# Altium footprint library Connector_Phoenix_MC.PcbLib: 180 footprints (part 5 of 12)
Each footprint in its own frame and in the unit in brackets; x right, y up, seen from the top. Pads: shape width x height; smd on the part's side, far side on the other; paste and mask are expansions set on the pad; w line width, h text height; cw(c..) or ccw(c..) is an arc to the next point about the centre after c.
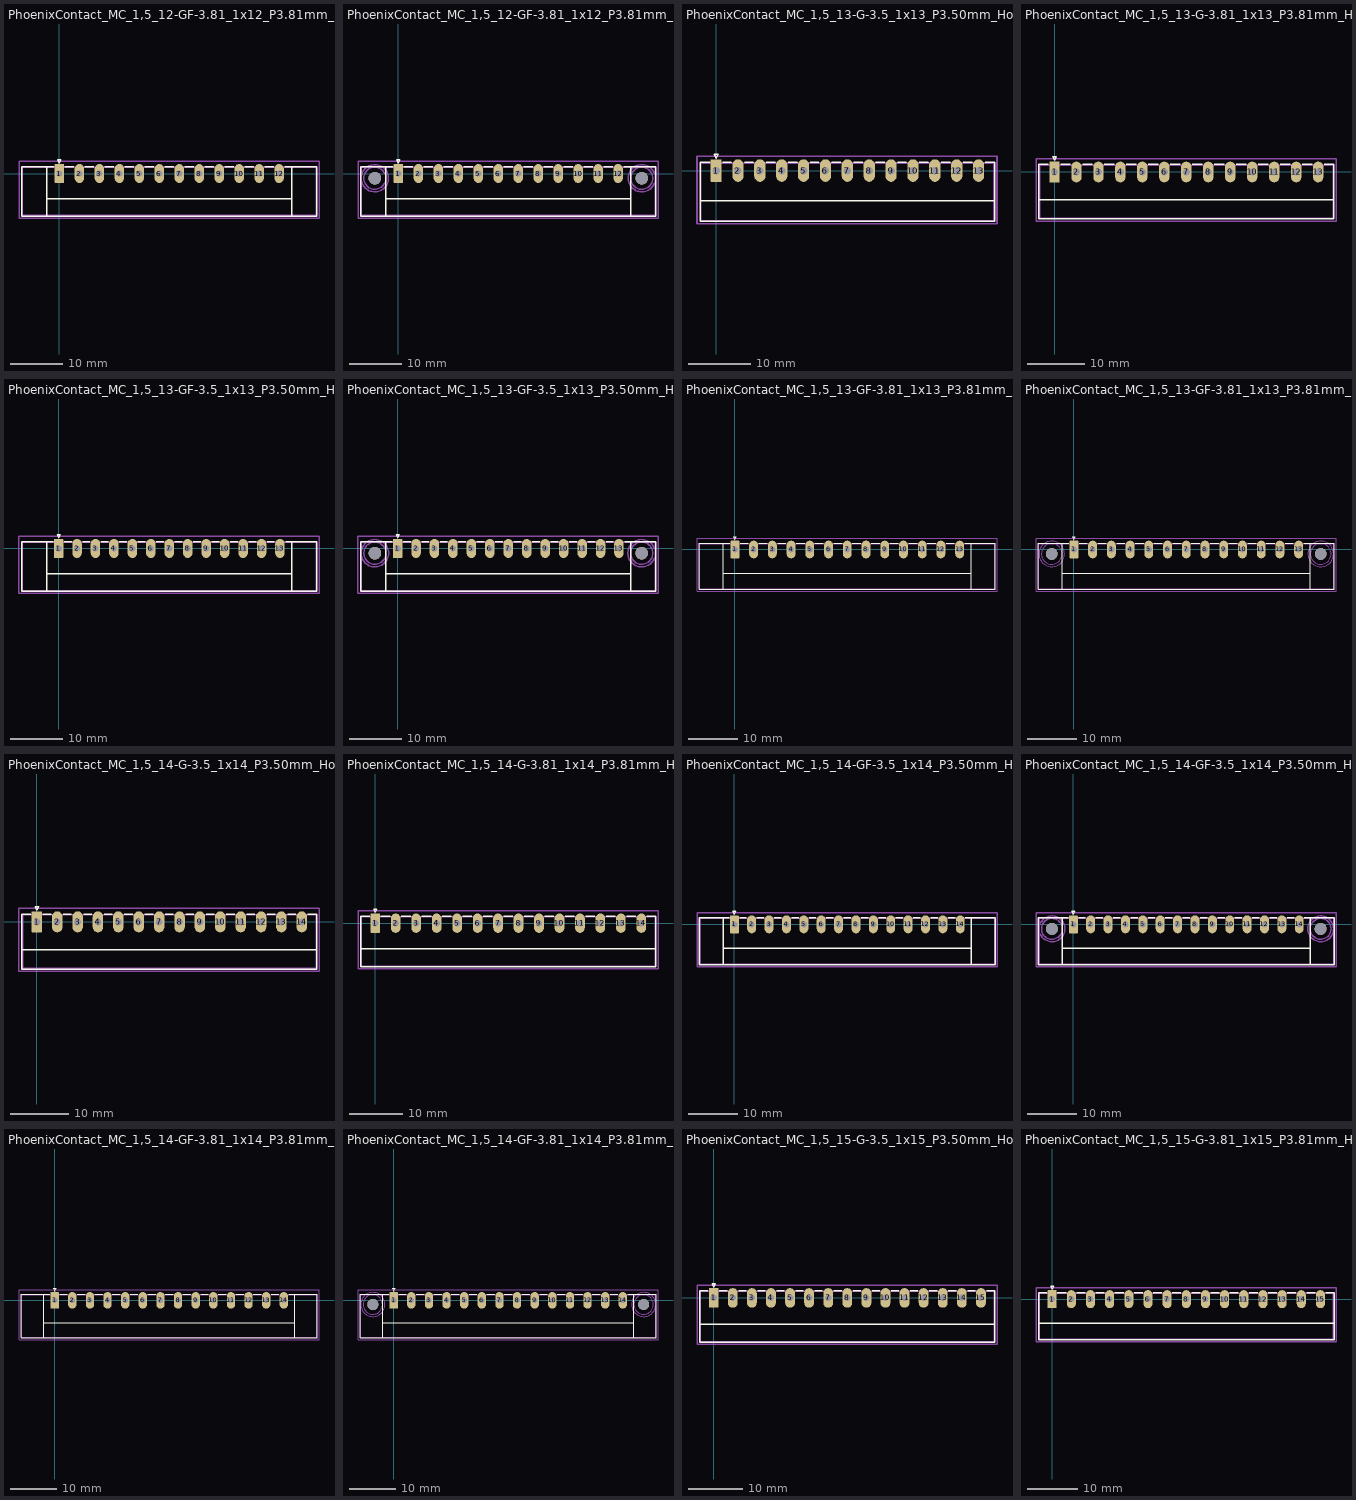
[diagram p4: the footprints below, top view; thin cyan lines are the x and y axes]

## PhoenixContact_MC_1,5_12-GF-3.81_1x12_P3.81mm_Horizontal_ThreadedFlange [mm]
pads (12):
  rrect14% 1.8x3.6 hole 1.2: 1(0,0)
  rrect100% 1.8x3.6 hole 1.2: 2(3.81,0) 3(7.62,0) 4(11.43,0) 5(15.24,0) 6(19.05,0) 7(22.86,0) 8(26.67,0) 9(30.48,0) 10(34.29,0) 11(38.1,0) 12(41.91,0)
F.SilkS:
  lines w0.254: -2.41,-8.11 -2.41,1.31 ; -2.41,-4.8 44.32,-4.8 ; -1.05,1.31 -7.21,1.31 -7.21,-8.11 49.12,-8.11 49.12,1.31 42.96,1.31 ; 1.05,1.31 2.76,1.31 ; 4.86,1.31 6.57,1.31 ; 8.67,1.31 10.38,1.31 ; 12.48,1.31 14.19,1.31 ; 16.29,1.31 18,1.31 ; 20.1,1.31 21.81,1.31 ; 23.91,1.31 25.62,1.31 ; 27.72,1.31 29.43,1.31 ; 31.53,1.31 33.24,1.31 ; 35.34,1.31 37.05,1.31 ; 39.15,1.31 40.86,1.31 ; 44.32,-8.11 44.32,1.31 ; -0.3,2.6 0,2 0.3,2.6 -0.3,2.6
Top Assembly:
  lines w0.254: -0.8,1.2 0,0 0.8,1.2 ; -7.1,-8 49.01,-8 49.01,1.2 -7.1,1.2 -7.1,-8
  text "'.Designator'" at 16.913,-0.34 h1
Top Courtyard:
  lines w0.254: -7.71,-8.5 49.51,-8.5 49.51,2.3 -7.71,2.3 -7.71,-8.5
Top Designator:
  text ".Designator" at 13.282,-3.458 h1.52

## PhoenixContact_MC_1,5_12-GF-3.81_1x12_P3.81mm_Horizontal_ThreadedFlange_MountHole [mm]
pads (14):
  rrect14% 1.8x3.6 hole 1.2: 1(0,0)
  rrect100% 1.8x3.6 hole 1.2: 2(3.81,0) 3(7.62,0) 4(11.43,0) 5(15.24,0) 6(19.05,0) 7(22.86,0) 8(26.67,0) 9(30.48,0) 10(34.29,0) 11(38.1,0) 12(41.91,0)
  round 2.4 hole 2.4: Un1(-4.5,-0.9) Un2(46.41,-0.9)
F.SilkS:
  lines w0.254: -2.41,-8.11 -2.41,1.31 ; -2.41,-4.8 44.32,-4.8 ; -1.05,1.31 -7.21,1.31 -7.21,-8.11 49.12,-8.11 49.12,1.31 42.96,1.31 ; 1.05,1.31 2.76,1.31 ; 4.86,1.31 6.57,1.31 ; 8.67,1.31 10.38,1.31 ; 12.48,1.31 14.19,1.31 ; 16.29,1.31 18,1.31 ; 20.1,1.31 21.81,1.31 ; 23.91,1.31 25.62,1.31 ; 27.72,1.31 29.43,1.31 ; 31.53,1.31 33.24,1.31 ; 35.34,1.31 37.05,1.31 ; 39.15,1.31 40.86,1.31 ; 44.32,-8.11 44.32,1.31 ; -0.3,2.6 0,2 0.3,2.6 -0.3,2.6
B.SilkS:
  circle w0.254: c46.41,-0.9 r2.21
  circle w0.254: c-4.5,-0.9 r2.21
Top Assembly:
  lines w0.254: -0.8,1.2 0,0 0.8,1.2 ; -7.1,-8 49.01,-8 49.01,1.2 -7.1,1.2 -7.1,-8
  text "'.Designator'" at 16.913,-0.34 h1
Bottom Assembly:
  circle w0.254: c46.41,-0.9 r2.1
  circle w0.254: c-4.5,-0.9 r2.1
Top Courtyard:
  lines w0.254: -7.71,-8.5 49.51,-8.5 49.51,2.3 -7.71,2.3 -7.71,-8.5
Bottom Courtyard:
  circle w0.254: c46.41,-0.9 r2.6
  circle w0.254: c-4.5,-0.9 r2.6
Top Designator:
  text ".Designator" at 13.282,-3.458 h1.52

## PhoenixContact_MC_1,5_13-G-3.5_1x13_P3.50mm_Horizontal [mm]
pads (13):
  rrect14% 1.8x3.6 hole 1.2: 1(0,0)
  rrect100% 1.8x3.6 hole 1.2: 2(3.5,0) 3(7,0) 4(10.5,0) 5(14,0) 6(17.5,0) 7(21,0) 8(24.5,0) 9(28,0) 10(31.5,0) 11(35,0) 12(38.5,0) 13(42,0)
F.SilkS:
  lines w0.254: -2.56,-4.8 44.56,-4.8 ; -1.05,1.31 -2.56,1.31 -2.56,-8.11 44.56,-8.11 44.56,1.31 43.05,1.31 ; 1.05,1.31 2.45,1.31 ; 4.55,1.31 5.95,1.31 ; 8.05,1.31 9.45,1.31 ; 11.55,1.31 12.95,1.31 ; 15.05,1.31 16.45,1.31 ; 18.55,1.31 19.95,1.31 ; 22.05,1.31 23.45,1.31 ; 25.55,1.31 26.95,1.31 ; 29.05,1.31 30.45,1.31 ; 32.55,1.31 33.95,1.31 ; 36.05,1.31 37.45,1.31 ; 39.55,1.31 40.95,1.31 ; -0.3,2.6 0,2 0.3,2.6 -0.3,2.6
Top Assembly:
  lines w0.254: -0.8,1.2 0,0 0.8,1.2 ; -2.45,-8 44.45,-8 44.45,1.2 -2.45,1.2 -2.45,-8
  text "'.Designator'" at 16.953,-0.34 h1
Top Courtyard:
  lines w0.254: -3.06,-8.5 44.95,-8.5 44.95,2.3 -3.06,2.3 -3.06,-8.5
Top Designator:
  text ".Designator" at 13.327,-3.458 h1.52

## PhoenixContact_MC_1,5_13-G-3.81_1x13_P3.81mm_Horizontal [mm]
pads (13):
  rrect14% 1.8x3.6 hole 1.2: 1(0,0)
  rrect100% 1.8x3.6 hole 1.2: 2(3.81,0) 3(7.62,0) 4(11.43,0) 5(15.24,0) 6(19.05,0) 7(22.86,0) 8(26.67,0) 9(30.48,0) 10(34.29,0) 11(38.1,0) 12(41.91,0) 13(45.72,0)
F.SilkS:
  lines w0.254: -2.71,-4.8 48.43,-4.8 ; -1.05,1.31 -2.71,1.31 -2.71,-8.11 48.43,-8.11 48.43,1.31 46.77,1.31 ; 1.05,1.31 2.76,1.31 ; 4.86,1.31 6.57,1.31 ; 8.67,1.31 10.38,1.31 ; 12.48,1.31 14.19,1.31 ; 16.29,1.31 18,1.31 ; 20.1,1.31 21.81,1.31 ; 23.91,1.31 25.62,1.31 ; 27.72,1.31 29.43,1.31 ; 31.53,1.31 33.24,1.31 ; 35.34,1.31 37.05,1.31 ; 39.15,1.31 40.86,1.31 ; 42.96,1.31 44.67,1.31 ; -0.3,2.6 0,2 0.3,2.6 -0.3,2.6
Top Assembly:
  lines w0.254: -0.8,1.2 0,0 0.8,1.2 ; -2.6,-8 48.32,-8 48.32,1.2 -2.6,1.2 -2.6,-8
  text "'.Designator'" at 18.813,-0.34 h1
Top Courtyard:
  lines w0.254: -3.21,-8.5 48.82,-8.5 48.82,2.3 -3.21,2.3 -3.21,-8.5
Top Designator:
  text ".Designator" at 15.187,-3.458 h1.52

## PhoenixContact_MC_1,5_13-GF-3.5_1x13_P3.50mm_Horizontal_ThreadedFlange [mm]
pads (13):
  rrect14% 1.8x3.6 hole 1.2: 1(0,0)
  rrect100% 1.8x3.6 hole 1.2: 2(3.5,0) 3(7,0) 4(10.5,0) 5(14,0) 6(17.5,0) 7(21,0) 8(24.5,0) 9(28,0) 10(31.5,0) 11(35,0) 12(38.5,0) 13(42,0)
F.SilkS:
  lines w0.254: -2.21,-8.11 -2.21,1.31 ; -2.21,-4.8 44.21,-4.8 ; -1.05,1.31 -7.01,1.31 -7.01,-8.11 49.01,-8.11 49.01,1.31 43.05,1.31 ; 1.05,1.31 2.45,1.31 ; 4.55,1.31 5.95,1.31 ; 8.05,1.31 9.45,1.31 ; 11.55,1.31 12.95,1.31 ; 15.05,1.31 16.45,1.31 ; 18.55,1.31 19.95,1.31 ; 22.05,1.31 23.45,1.31 ; 25.55,1.31 26.95,1.31 ; 29.05,1.31 30.45,1.31 ; 32.55,1.31 33.95,1.31 ; 36.05,1.31 37.45,1.31 ; 39.55,1.31 40.95,1.31 ; 44.21,-8.11 44.21,1.31 ; -0.3,2.6 0,2 0.3,2.6 -0.3,2.6
Top Assembly:
  lines w0.254: -0.8,1.2 0,0 0.8,1.2 ; -6.9,-8 48.9,-8 48.9,1.2 -6.9,1.2 -6.9,-8
  text "'.Designator'" at 16.953,-0.34 h1
Top Courtyard:
  lines w0.254: -7.51,-8.5 49.4,-8.5 49.4,2.3 -7.51,2.3 -7.51,-8.5
Top Designator:
  text ".Designator" at 13.327,-3.458 h1.52

## PhoenixContact_MC_1,5_13-GF-3.5_1x13_P3.50mm_Horizontal_ThreadedFlange_MountHole [mm]
pads (15):
  rrect14% 1.8x3.6 hole 1.2: 1(0,0)
  rrect100% 1.8x3.6 hole 1.2: 2(3.5,0) 3(7,0) 4(10.5,0) 5(14,0) 6(17.5,0) 7(21,0) 8(24.5,0) 9(28,0) 10(31.5,0) 11(35,0) 12(38.5,0) 13(42,0)
  round 2.4 hole 2.4: Un1(-4.3,-0.9) Un2(46.3,-0.9)
F.SilkS:
  lines w0.254: -2.21,-8.11 -2.21,1.31 ; -2.21,-4.8 44.21,-4.8 ; -1.05,1.31 -7.01,1.31 -7.01,-8.11 49.01,-8.11 49.01,1.31 43.05,1.31 ; 1.05,1.31 2.45,1.31 ; 4.55,1.31 5.95,1.31 ; 8.05,1.31 9.45,1.31 ; 11.55,1.31 12.95,1.31 ; 15.05,1.31 16.45,1.31 ; 18.55,1.31 19.95,1.31 ; 22.05,1.31 23.45,1.31 ; 25.55,1.31 26.95,1.31 ; 29.05,1.31 30.45,1.31 ; 32.55,1.31 33.95,1.31 ; 36.05,1.31 37.45,1.31 ; 39.55,1.31 40.95,1.31 ; 44.21,-8.11 44.21,1.31 ; -0.3,2.6 0,2 0.3,2.6 -0.3,2.6
B.SilkS:
  circle w0.254: c46.3,-0.9 r2.21
  circle w0.254: c-4.3,-0.9 r2.21
Top Assembly:
  lines w0.254: -0.8,1.2 0,0 0.8,1.2 ; -6.9,-8 48.9,-8 48.9,1.2 -6.9,1.2 -6.9,-8
  text "'.Designator'" at 16.953,-0.34 h1
Bottom Assembly:
  circle w0.254: c46.3,-0.9 r2.1
  circle w0.254: c-4.3,-0.9 r2.1
Top Courtyard:
  lines w0.254: -7.51,-8.5 49.4,-8.5 49.4,2.3 -7.51,2.3 -7.51,-8.5
Bottom Courtyard:
  circle w0.254: c46.3,-0.9 r2.6
  circle w0.254: c-4.3,-0.9 r2.6
Top Designator:
  text ".Designator" at 13.327,-3.458 h1.52

## PhoenixContact_MC_1,5_13-GF-3.81_1x13_P3.81mm_Horizontal_ThreadedFlange [mm]
pads (13):
  rrect14% 1.8x3.6 hole 1.2: 1(0,0)
  rrect100% 1.8x3.6 hole 1.2: 2(3.81,0) 3(7.62,0) 4(11.43,0) 5(15.24,0) 6(19.05,0) 7(22.86,0) 8(26.67,0) 9(30.48,0) 10(34.29,0) 11(38.1,0) 12(41.91,0) 13(45.72,0)
F.SilkS:
  lines w0.254: -2.41,-8.11 -2.41,1.31 ; -2.41,-4.8 48.13,-4.8 ; -1.05,1.31 -7.21,1.31 -7.21,-8.11 52.93,-8.11 52.93,1.31 46.77,1.31 ; 1.05,1.31 2.76,1.31 ; 4.86,1.31 6.57,1.31 ; 8.67,1.31 10.38,1.31 ; 12.48,1.31 14.19,1.31 ; 16.29,1.31 18,1.31 ; 20.1,1.31 21.81,1.31 ; 23.91,1.31 25.62,1.31 ; 27.72,1.31 29.43,1.31 ; 31.53,1.31 33.24,1.31 ; 35.34,1.31 37.05,1.31 ; 39.15,1.31 40.86,1.31 ; 42.96,1.31 44.67,1.31 ; 48.13,-8.11 48.13,1.31 ; -0.3,2.6 0,2 0.3,2.6 -0.3,2.6
Top Assembly:
  lines w0.254: -0.8,1.2 0,0 0.8,1.2 ; -7.1,-8 52.82,-8 52.82,1.2 -7.1,1.2 -7.1,-8
  text "'.Designator'" at 18.813,-0.34 h1
Top Courtyard:
  lines w0.254: -7.71,-8.5 53.32,-8.5 53.32,2.3 -7.71,2.3 -7.71,-8.5
Top Designator:
  text ".Designator" at 15.187,-3.458 h1.52

## PhoenixContact_MC_1,5_13-GF-3.81_1x13_P3.81mm_Horizontal_ThreadedFlange_MountHole [mm]
pads (15):
  rrect14% 1.8x3.6 hole 1.2: 1(0,0)
  rrect100% 1.8x3.6 hole 1.2: 2(3.81,0) 3(7.62,0) 4(11.43,0) 5(15.24,0) 6(19.05,0) 7(22.86,0) 8(26.67,0) 9(30.48,0) 10(34.29,0) 11(38.1,0) 12(41.91,0) 13(45.72,0)
  round 2.4 hole 2.4: Un1(-4.5,-0.9) Un2(50.22,-0.9)
F.SilkS:
  lines w0.254: -2.41,-8.11 -2.41,1.31 ; -2.41,-4.8 48.13,-4.8 ; -1.05,1.31 -7.21,1.31 -7.21,-8.11 52.93,-8.11 52.93,1.31 46.77,1.31 ; 1.05,1.31 2.76,1.31 ; 4.86,1.31 6.57,1.31 ; 8.67,1.31 10.38,1.31 ; 12.48,1.31 14.19,1.31 ; 16.29,1.31 18,1.31 ; 20.1,1.31 21.81,1.31 ; 23.91,1.31 25.62,1.31 ; 27.72,1.31 29.43,1.31 ; 31.53,1.31 33.24,1.31 ; 35.34,1.31 37.05,1.31 ; 39.15,1.31 40.86,1.31 ; 42.96,1.31 44.67,1.31 ; 48.13,-8.11 48.13,1.31 ; -0.3,2.6 0,2 0.3,2.6 -0.3,2.6
B.SilkS:
  circle w0.254: c50.22,-0.9 r2.21
  circle w0.254: c-4.5,-0.9 r2.21
Top Assembly:
  lines w0.254: -0.8,1.2 0,0 0.8,1.2 ; -7.1,-8 52.82,-8 52.82,1.2 -7.1,1.2 -7.1,-8
  text "'.Designator'" at 18.813,-0.34 h1
Bottom Assembly:
  circle w0.254: c50.22,-0.9 r2.1
  circle w0.254: c-4.5,-0.9 r2.1
Top Courtyard:
  lines w0.254: -7.71,-8.5 53.32,-8.5 53.32,2.3 -7.71,2.3 -7.71,-8.5
Bottom Courtyard:
  circle w0.254: c50.22,-0.9 r2.6
  circle w0.254: c-4.5,-0.9 r2.6
Top Designator:
  text ".Designator" at 15.187,-3.458 h1.52

## PhoenixContact_MC_1,5_14-G-3.5_1x14_P3.50mm_Horizontal [mm]
pads (14):
  rrect14% 1.8x3.6 hole 1.2: 1(0,0)
  rrect100% 1.8x3.6 hole 1.2: 2(3.5,0) 3(7,0) 4(10.5,0) 5(14,0) 6(17.5,0) 7(21,0) 8(24.5,0) 9(28,0) 10(31.5,0) 11(35,0) 12(38.5,0) 13(42,0) 14(45.5,0)
F.SilkS:
  lines w0.254: -2.56,-4.8 48.06,-4.8 ; -1.05,1.31 -2.56,1.31 -2.56,-8.11 48.06,-8.11 48.06,1.31 46.55,1.31 ; 1.05,1.31 2.45,1.31 ; 4.55,1.31 5.95,1.31 ; 8.05,1.31 9.45,1.31 ; 11.55,1.31 12.95,1.31 ; 15.05,1.31 16.45,1.31 ; 18.55,1.31 19.95,1.31 ; 22.05,1.31 23.45,1.31 ; 25.55,1.31 26.95,1.31 ; 29.05,1.31 30.45,1.31 ; 32.55,1.31 33.95,1.31 ; 36.05,1.31 37.45,1.31 ; 39.55,1.31 40.95,1.31 ; 43.05,1.31 44.45,1.31 ; -0.3,2.6 0,2 0.3,2.6 -0.3,2.6
Top Assembly:
  lines w0.254: -0.8,1.2 0,0 0.8,1.2 ; -2.45,-8 47.95,-8 47.95,1.2 -2.45,1.2 -2.45,-8
  text "'.Designator'" at 18.703,-0.34 h1
Top Courtyard:
  lines w0.254: -3.06,-8.5 48.45,-8.5 48.45,2.3 -3.06,2.3 -3.06,-8.5
Top Designator:
  text ".Designator" at 15.077,-3.458 h1.52

## PhoenixContact_MC_1,5_14-G-3.81_1x14_P3.81mm_Horizontal [mm]
pads (14):
  rrect14% 1.8x3.6 hole 1.2: 1(0,0)
  rrect100% 1.8x3.6 hole 1.2: 2(3.81,0) 3(7.62,0) 4(11.43,0) 5(15.24,0) 6(19.05,0) 7(22.86,0) 8(26.67,0) 9(30.48,0) 10(34.29,0) 11(38.1,0) 12(41.91,0) 13(45.72,0) 14(49.53,0)
F.SilkS:
  lines w0.254: -2.71,-4.8 52.24,-4.8 ; -1.05,1.31 -2.71,1.31 -2.71,-8.11 52.24,-8.11 52.24,1.31 50.58,1.31 ; 1.05,1.31 2.76,1.31 ; 4.86,1.31 6.57,1.31 ; 8.67,1.31 10.38,1.31 ; 12.48,1.31 14.19,1.31 ; 16.29,1.31 18,1.31 ; 20.1,1.31 21.81,1.31 ; 23.91,1.31 25.62,1.31 ; 27.72,1.31 29.43,1.31 ; 31.53,1.31 33.24,1.31 ; 35.34,1.31 37.05,1.31 ; 39.15,1.31 40.86,1.31 ; 42.96,1.31 44.67,1.31 ; 46.77,1.31 48.48,1.31 ; -0.3,2.6 0,2 0.3,2.6 -0.3,2.6
Top Assembly:
  lines w0.254: -0.8,1.2 0,0 0.8,1.2 ; -2.6,-8 52.13,-8 52.13,1.2 -2.6,1.2 -2.6,-8
  text "'.Designator'" at 20.713,-0.34 h1
Top Courtyard:
  lines w0.254: -3.21,-8.5 52.63,-8.5 52.63,2.3 -3.21,2.3 -3.21,-8.5
Top Designator:
  text ".Designator" at 17.092,-3.458 h1.52

## PhoenixContact_MC_1,5_14-GF-3.5_1x14_P3.50mm_Horizontal_ThreadedFlange [mm]
pads (14):
  rrect14% 1.8x3.6 hole 1.2: 1(0,0)
  rrect100% 1.8x3.6 hole 1.2: 2(3.5,0) 3(7,0) 4(10.5,0) 5(14,0) 6(17.5,0) 7(21,0) 8(24.5,0) 9(28,0) 10(31.5,0) 11(35,0) 12(38.5,0) 13(42,0) 14(45.5,0)
F.SilkS:
  lines w0.254: -2.21,-8.11 -2.21,1.31 ; -2.21,-4.8 47.71,-4.8 ; -1.05,1.31 -7.01,1.31 -7.01,-8.11 52.51,-8.11 52.51,1.31 46.55,1.31 ; 1.05,1.31 2.45,1.31 ; 4.55,1.31 5.95,1.31 ; 8.05,1.31 9.45,1.31 ; 11.55,1.31 12.95,1.31 ; 15.05,1.31 16.45,1.31 ; 18.55,1.31 19.95,1.31 ; 22.05,1.31 23.45,1.31 ; 25.55,1.31 26.95,1.31 ; 29.05,1.31 30.45,1.31 ; 32.55,1.31 33.95,1.31 ; 36.05,1.31 37.45,1.31 ; 39.55,1.31 40.95,1.31 ; 43.05,1.31 44.45,1.31 ; 47.71,-8.11 47.71,1.31 ; -0.3,2.6 0,2 0.3,2.6 -0.3,2.6
Top Assembly:
  lines w0.254: -0.8,1.2 0,0 0.8,1.2 ; -6.9,-8 52.4,-8 52.4,1.2 -6.9,1.2 -6.9,-8
  text "'.Designator'" at 18.703,-0.34 h1
Top Courtyard:
  lines w0.254: -7.51,-8.5 52.9,-8.5 52.9,2.3 -7.51,2.3 -7.51,-8.5
Top Designator:
  text ".Designator" at 15.077,-3.458 h1.52

## PhoenixContact_MC_1,5_14-GF-3.5_1x14_P3.50mm_Horizontal_ThreadedFlange_MountHole [mm]
pads (16):
  rrect14% 1.8x3.6 hole 1.2: 1(0,0)
  rrect100% 1.8x3.6 hole 1.2: 2(3.5,0) 3(7,0) 4(10.5,0) 5(14,0) 6(17.5,0) 7(21,0) 8(24.5,0) 9(28,0) 10(31.5,0) 11(35,0) 12(38.5,0) 13(42,0) 14(45.5,0)
  round 2.4 hole 2.4: Un1(-4.3,-0.9) Un2(49.8,-0.9)
F.SilkS:
  lines w0.254: -2.21,-8.11 -2.21,1.31 ; -2.21,-4.8 47.71,-4.8 ; -1.05,1.31 -7.01,1.31 -7.01,-8.11 52.51,-8.11 52.51,1.31 46.55,1.31 ; 1.05,1.31 2.45,1.31 ; 4.55,1.31 5.95,1.31 ; 8.05,1.31 9.45,1.31 ; 11.55,1.31 12.95,1.31 ; 15.05,1.31 16.45,1.31 ; 18.55,1.31 19.95,1.31 ; 22.05,1.31 23.45,1.31 ; 25.55,1.31 26.95,1.31 ; 29.05,1.31 30.45,1.31 ; 32.55,1.31 33.95,1.31 ; 36.05,1.31 37.45,1.31 ; 39.55,1.31 40.95,1.31 ; 43.05,1.31 44.45,1.31 ; 47.71,-8.11 47.71,1.31 ; -0.3,2.6 0,2 0.3,2.6 -0.3,2.6
B.SilkS:
  circle w0.254: c49.8,-0.9 r2.21
  circle w0.254: c-4.3,-0.9 r2.21
Top Assembly:
  lines w0.254: -0.8,1.2 0,0 0.8,1.2 ; -6.9,-8 52.4,-8 52.4,1.2 -6.9,1.2 -6.9,-8
  text "'.Designator'" at 18.703,-0.34 h1
Bottom Assembly:
  circle w0.254: c49.8,-0.9 r2.1
  circle w0.254: c-4.3,-0.9 r2.1
Top Courtyard:
  lines w0.254: -7.51,-8.5 52.9,-8.5 52.9,2.3 -7.51,2.3 -7.51,-8.5
Bottom Courtyard:
  circle w0.254: c49.8,-0.9 r2.6
  circle w0.254: c-4.3,-0.9 r2.6
Top Designator:
  text ".Designator" at 15.077,-3.458 h1.52

## PhoenixContact_MC_1,5_14-GF-3.81_1x14_P3.81mm_Horizontal_ThreadedFlange [mm]
pads (14):
  rrect14% 1.8x3.6 hole 1.2: 1(0,0)
  rrect100% 1.8x3.6 hole 1.2: 2(3.81,0) 3(7.62,0) 4(11.43,0) 5(15.24,0) 6(19.05,0) 7(22.86,0) 8(26.67,0) 9(30.48,0) 10(34.29,0) 11(38.1,0) 12(41.91,0) 13(45.72,0) 14(49.53,0)
F.SilkS:
  lines w0.254: -2.41,-8.11 -2.41,1.31 ; -2.41,-4.8 51.94,-4.8 ; -1.05,1.31 -7.21,1.31 -7.21,-8.11 56.74,-8.11 56.74,1.31 50.58,1.31 ; 1.05,1.31 2.76,1.31 ; 4.86,1.31 6.57,1.31 ; 8.67,1.31 10.38,1.31 ; 12.48,1.31 14.19,1.31 ; 16.29,1.31 18,1.31 ; 20.1,1.31 21.81,1.31 ; 23.91,1.31 25.62,1.31 ; 27.72,1.31 29.43,1.31 ; 31.53,1.31 33.24,1.31 ; 35.34,1.31 37.05,1.31 ; 39.15,1.31 40.86,1.31 ; 42.96,1.31 44.67,1.31 ; 46.77,1.31 48.48,1.31 ; 51.94,-8.11 51.94,1.31 ; -0.3,2.6 0,2 0.3,2.6 -0.3,2.6
Top Assembly:
  lines w0.254: -0.8,1.2 0,0 0.8,1.2 ; -7.1,-8 56.63,-8 56.63,1.2 -7.1,1.2 -7.1,-8
  text "'.Designator'" at 20.713,-0.34 h1
Top Courtyard:
  lines w0.254: -7.71,-8.5 57.13,-8.5 57.13,2.3 -7.71,2.3 -7.71,-8.5
Top Designator:
  text ".Designator" at 17.092,-3.458 h1.52

## PhoenixContact_MC_1,5_14-GF-3.81_1x14_P3.81mm_Horizontal_ThreadedFlange_MountHole [mm]
pads (16):
  rrect14% 1.8x3.6 hole 1.2: 1(0,0)
  rrect100% 1.8x3.6 hole 1.2: 2(3.81,0) 3(7.62,0) 4(11.43,0) 5(15.24,0) 6(19.05,0) 7(22.86,0) 8(26.67,0) 9(30.48,0) 10(34.29,0) 11(38.1,0) 12(41.91,0) 13(45.72,0) 14(49.53,0)
  round 2.4 hole 2.4: Un1(-4.5,-0.9) Un2(54.03,-0.9)
F.SilkS:
  lines w0.254: -2.41,-8.11 -2.41,1.31 ; -2.41,-4.8 51.94,-4.8 ; -1.05,1.31 -7.21,1.31 -7.21,-8.11 56.74,-8.11 56.74,1.31 50.58,1.31 ; 1.05,1.31 2.76,1.31 ; 4.86,1.31 6.57,1.31 ; 8.67,1.31 10.38,1.31 ; 12.48,1.31 14.19,1.31 ; 16.29,1.31 18,1.31 ; 20.1,1.31 21.81,1.31 ; 23.91,1.31 25.62,1.31 ; 27.72,1.31 29.43,1.31 ; 31.53,1.31 33.24,1.31 ; 35.34,1.31 37.05,1.31 ; 39.15,1.31 40.86,1.31 ; 42.96,1.31 44.67,1.31 ; 46.77,1.31 48.48,1.31 ; 51.94,-8.11 51.94,1.31 ; -0.3,2.6 0,2 0.3,2.6 -0.3,2.6
B.SilkS:
  circle w0.254: c54.03,-0.9 r2.21
  circle w0.254: c-4.5,-0.9 r2.21
Top Assembly:
  lines w0.254: -0.8,1.2 0,0 0.8,1.2 ; -7.1,-8 56.63,-8 56.63,1.2 -7.1,1.2 -7.1,-8
  text "'.Designator'" at 20.713,-0.34 h1
Bottom Assembly:
  circle w0.254: c54.03,-0.9 r2.1
  circle w0.254: c-4.5,-0.9 r2.1
Top Courtyard:
  lines w0.254: -7.71,-8.5 57.13,-8.5 57.13,2.3 -7.71,2.3 -7.71,-8.5
Bottom Courtyard:
  circle w0.254: c54.03,-0.9 r2.6
  circle w0.254: c-4.5,-0.9 r2.6
Top Designator:
  text ".Designator" at 17.092,-3.458 h1.52

## PhoenixContact_MC_1,5_15-G-3.5_1x15_P3.50mm_Horizontal [mm]
pads (15):
  rrect14% 1.8x3.6 hole 1.2: 1(0,0)
  rrect100% 1.8x3.6 hole 1.2: 2(3.5,0) 3(7,0) 4(10.5,0) 5(14,0) 6(17.5,0) 7(21,0) 8(24.5,0) 9(28,0) 10(31.5,0) 11(35,0) 12(38.5,0) 13(42,0) 14(45.5,0) 15(49,0)
F.SilkS:
  lines w0.254: -2.56,-4.8 51.56,-4.8 ; -1.05,1.31 -2.56,1.31 -2.56,-8.11 51.56,-8.11 51.56,1.31 50.05,1.31 ; 1.05,1.31 2.45,1.31 ; 4.55,1.31 5.95,1.31 ; 8.05,1.31 9.45,1.31 ; 11.55,1.31 12.95,1.31 ; 15.05,1.31 16.45,1.31 ; 18.55,1.31 19.95,1.31 ; 22.05,1.31 23.45,1.31 ; 25.55,1.31 26.95,1.31 ; 29.05,1.31 30.45,1.31 ; 32.55,1.31 33.95,1.31 ; 36.05,1.31 37.45,1.31 ; 39.55,1.31 40.95,1.31 ; 43.05,1.31 44.45,1.31 ; 46.55,1.31 47.95,1.31 ; -0.3,2.6 0,2 0.3,2.6 -0.3,2.6
Top Assembly:
  lines w0.254: -0.8,1.2 0,0 0.8,1.2 ; -2.45,-8 51.45,-8 51.45,1.2 -2.45,1.2 -2.45,-8
  text "'.Designator'" at 20.453,-0.34 h1
Top Courtyard:
  lines w0.254: -3.06,-8.5 51.95,-8.5 51.95,2.3 -3.06,2.3 -3.06,-8.5
Top Designator:
  text ".Designator" at 16.827,-3.458 h1.52

## PhoenixContact_MC_1,5_15-G-3.81_1x15_P3.81mm_Horizontal [mm]
pads (15):
  rrect14% 1.8x3.6 hole 1.2: 1(0,0)
  rrect100% 1.8x3.6 hole 1.2: 2(3.81,0) 3(7.62,0) 4(11.43,0) 5(15.24,0) 6(19.05,0) 7(22.86,0) 8(26.67,0) 9(30.48,0) 10(34.29,0) 11(38.1,0) 12(41.91,0) 13(45.72,0) 14(49.53,0) 15(53.34,0)
F.SilkS:
  lines w0.254: -2.71,-4.8 56.05,-4.8 ; -1.05,1.31 -2.71,1.31 -2.71,-8.11 56.05,-8.11 56.05,1.31 54.39,1.31 ; 1.05,1.31 2.76,1.31 ; 4.86,1.31 6.57,1.31 ; 8.67,1.31 10.38,1.31 ; 12.48,1.31 14.19,1.31 ; 16.29,1.31 18,1.31 ; 20.1,1.31 21.81,1.31 ; 23.91,1.31 25.62,1.31 ; 27.72,1.31 29.43,1.31 ; 31.53,1.31 33.24,1.31 ; 35.34,1.31 37.05,1.31 ; 39.15,1.31 40.86,1.31 ; 42.96,1.31 44.67,1.31 ; 46.77,1.31 48.48,1.31 ; 50.58,1.31 52.29,1.31 ; -0.3,2.6 0,2 0.3,2.6 -0.3,2.6
Top Assembly:
  lines w0.254: -0.8,1.2 0,0 0.8,1.2 ; -2.6,-8 55.94,-8 55.94,1.2 -2.6,1.2 -2.6,-8
  text "'.Designator'" at 22.623,-0.34 h1
Top Courtyard:
  lines w0.254: -3.21,-8.5 56.44,-8.5 56.44,2.3 -3.21,2.3 -3.21,-8.5
Top Designator:
  text ".Designator" at 18.997,-3.458 h1.52